# Altium integrated library LED.IntLib: 2 symbols
Pins are listed as number, name and electrical type; pins without a type are passive.

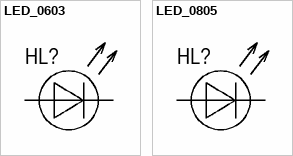
[diagram p0: symbols LED_0603 to LED_0805]

## LED_0603
designator HL?
Part: LTST-C190; Color: KGKT; B: TBKT; R: KRKT; Y: KSKT; G: KGKT
footprint 0603_Y
footprint 0603_R
footprint 0603_G
footprint 0603_B
pins: 1, 2

## LED_0805
designator HL?
Part: LTST-C171; GREEN: KGKT; RED: KRKT; BLUE: TBKT; YELLOW: KSKT; Color: KGKT
footprint 0805_Y
footprint 0805_R
footprint 0805_B
footprint 0805_G
pins: 1, 2